# Altium footprint library ECX-2236.PcbLib: 2 footprints
Each footprint in its own frame and in the unit in brackets; x right, y up, seen from the top. Pads: shape width x height; smd on the part's side, far side on the other; paste and mask are expansions set on the pad; w line width, h text height; cw(c..) or ccw(c..) is an arc to the next point about the centre after c.
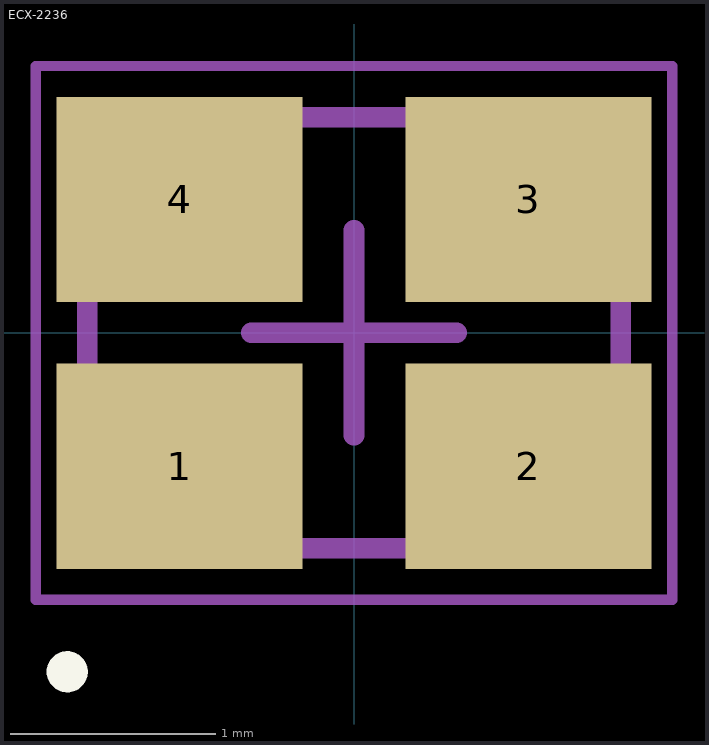
[diagram p0: the footprints below, top view; thin cyan lines are the x and y axes]

## ECX-2236 [mm] "CRYSTAL 24.000 MHZ 8PF SMD"
height 0.6
pads (4):
  rect 1.2x1 smd: 1(-0.85,-0.65) 2(0.85,-0.65) 3(0.85,0.65) 4(-0.85,0.65)
Top Overlay:
  circle w0.1: c-1.397,-1.651 r0.05
Mechanical 13:
  lines w0.1: -1.3,-1.05 -1.3,1.05 1.3,1.05 1.3,-1.05 -1.3,-1.05
Mechanical 15:
  lines w0.05: -1.55,-1.3 -1.55,1.3 1.55,1.3 1.55,-1.3 -1.55,-1.3
  lines w0.1: -0.5,0 0.5,0 ; 0,-0.5 0,0.5
3D body: height 0.6, standoff 0, extent -1.3,-1.05 1.3,1.05

## PCBComponent_1 - duplicate [mm]